# Altium footprint library UM DC-DC.PcbLib: 1 footprints
Each footprint in its own frame and in the unit in brackets; x right, y up, seen from the top. Pads: shape width x height; smd on the part's side, far side on the other; paste and mask are expansions set on the pad; w line width, h text height; cw(c..) or ccw(c..) is an arc to the next point about the centre after c.
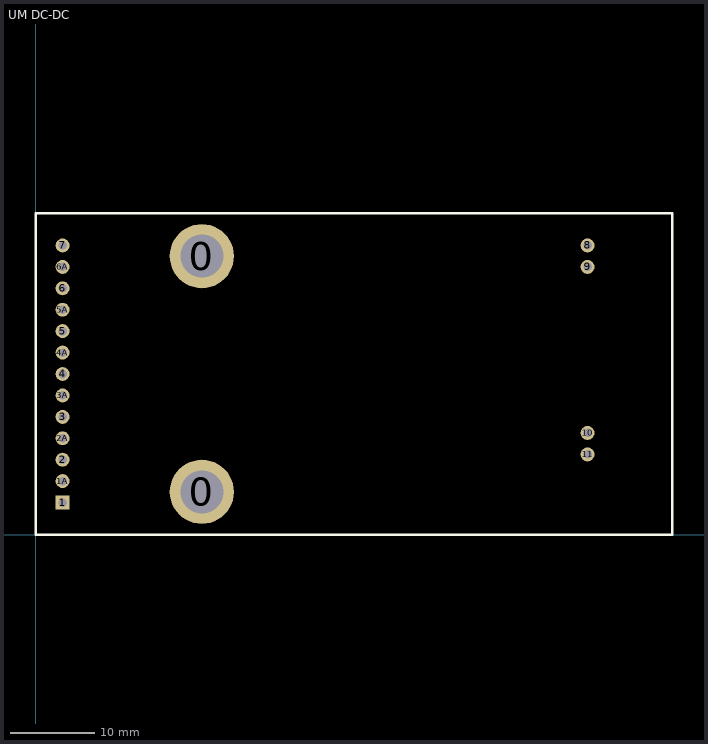
[diagram p0: the footprint, top view; thin cyan lines are the x and y axes]

## UM DC-DC [mil]
pads (19):
  round 300 hole 200: 0(775,200) 0(775,1300)
  rect 65x65 hole 40: 1(125,150)
  round 65 hole 40: 1A(125,250) 2(125,350) 2A(125,450) 3(125,550) 3A(125,650) 4(125,750) 4A(125,850) 5(125,950) 5A(125,1050) 6(125,1150) 6A(125,1250) 7(125,1350) 8(2575,1350) 9(2575,1250) 10(2575,475) 11(2575,375)
Top Overlay:
  lines w10: 0,0 2970,0 2970,1500 0,1500 0,0
3D body: height 840, standoff 0, extent 0,0 2970,1500